# Altium schematic symbol library USB4110GFA.SchLib: 1 symbol
Pins are listed as number, name and electrical type; pins without a type are passive.

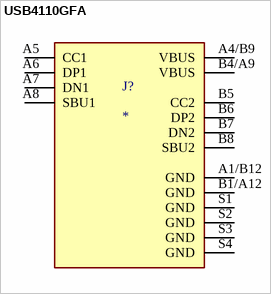
[diagram p0: symbol USB4110GFA]

## USB4110GFA
designator J?
USB-C (USB TYPE-C) USB 2.0 Receptacle Connector 24 (16+8 Dummy) Position Surface Mount, Right Angle; MF: Global Connector Technology; MP: USB4110GFA; SnapEDA_Link: https://www.snapeda.com/parts/USB4110GFA/Global+Connector+Technology/view-part/?ref=snap; Package: None; Value: *; Check_prices: https://www.snapeda.com/parts/USB4110GFA/Global+Connector+Technology/view-part/?ref=eda
footprint GCT_USB4110GFA
pins: A1/B12 GND (power), A4/B9 VBUS (power), A5 CC1, A6 DP1, A7 DN1, A8 SBU1, B1/A12 GND (power), B4/A9 VBUS (power), B5 CC2, B6 DP2, B7 DN2, B8 SBU2, S1 GND (power), S2 GND (power), S3 GND (power), S4 GND (power)